# Altium schematic symbol library LoadSwitch.SchLib: 1 symbol
Pins are listed as number, name and electrical type; pins without a type are passive.

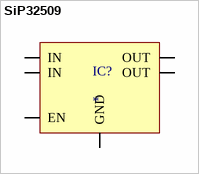
[diagram p0: symbol SiP32509]

## SiP32509
designator IC?
Load switch with reverse current blocking
footprint TSOT23-6_N (TSOT23, 6-Leads, Body 1.8x3mm, Lead Span 3mm, IPC Medium Density); pin to pad EN>3 GND>4 IN1>5 IN2>6 OUT1>1 OUT2>2
pins: EN, GND, IN1 IN, IN2 IN, OUT1 OUT, OUT2 OUT